# EAGLE library part DE1_GPIO_CON40 (library connectors)
DE1 GPIO Connector This is the 40 pin GPIO expansion connector for DE1 board.
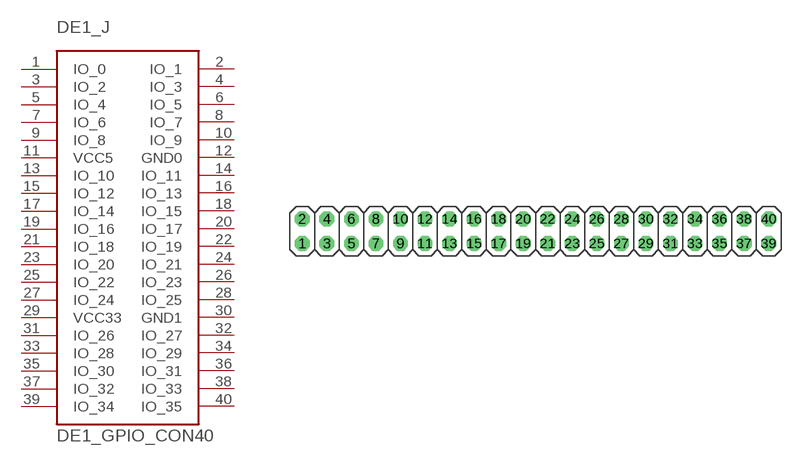
[diagram p0: symbol with the pads of 2X20; footprint 2X20]

Designator prefix DE1_J

## DE1_GPIO_CON40"  [2X20]
1  IO_0
2  IO_1
3  IO_2
4  IO_3
5  IO_4
6  IO_5
7  IO_6
8  IO_7
9  IO_8
10  IO_9
11  VCC5  pwr
12  GND0  pwr
13  IO_10
14  IO_11
15  IO_12
16  IO_13
17  IO_14
18  IO_15
19  IO_16
20  IO_17
21  IO_18
22  IO_19
23  IO_20
24  IO_21
25  IO_22
26  IO_23
27  IO_24
28  IO_25
29  VCC33  pwr
30  GND1  pwr
31  IO_26
32  IO_27
33  IO_28
34  IO_29
35  IO_30
36  IO_31
37  IO_32
38  IO_33
39  IO_34
40  IO_35

## Footprint 2X20 (pad centres in mm)
2x20 PIN HEADER
drill 1.016 octagon: 1 -24.13,-1.27; 2 -24.13,1.27; 3 -21.59,-1.27; 4 -21.59,1.27; 5 -19.05,-1.27; 6 -19.05,1.27; 7 -16.51,-1.27; 8 -16.51,1.27; 9 -13.97,-1.27; 10 -13.97,1.27; 11 -11.43,-1.27; 12 -11.43,1.27; 13 -8.89,-1.27; 14 -8.89,1.27; 15 -6.35,-1.27; 16 -6.35,1.27; 17 -3.81,-1.27; 18 -3.81,1.27; 19 -1.27,-1.27; 20 -1.27,1.27; 21 1.27,-1.27; 22 1.27,1.27; 23 3.81,-1.27; 24 3.81,1.27; 25 6.35,-1.27; 26 6.35,1.27; 27 8.89,-1.27; 28 8.89,1.27; 29 11.43,-1.27; 30 11.43,1.27; 31 13.97,-1.27; 32 13.97,1.27; 33 16.51,-1.27; 34 16.51,1.27; 35 19.05,-1.27; 36 19.05,1.27; 37 21.59,-1.27; 38 21.59,1.27; 39 24.13,-1.27; 40 24.13,1.27